# Altium footprint library Connector.PCBLIB: 82 footprints (part 3 of 6)
Each footprint in its own frame and in the unit in brackets; x right, y up, seen from the top. Pads: shape width x height; smd on the part's side, far side on the other; paste and mask are expansions set on the pad; w line width, h text height; cw(c..) or ccw(c..) is an arc to the next point about the centre after c.
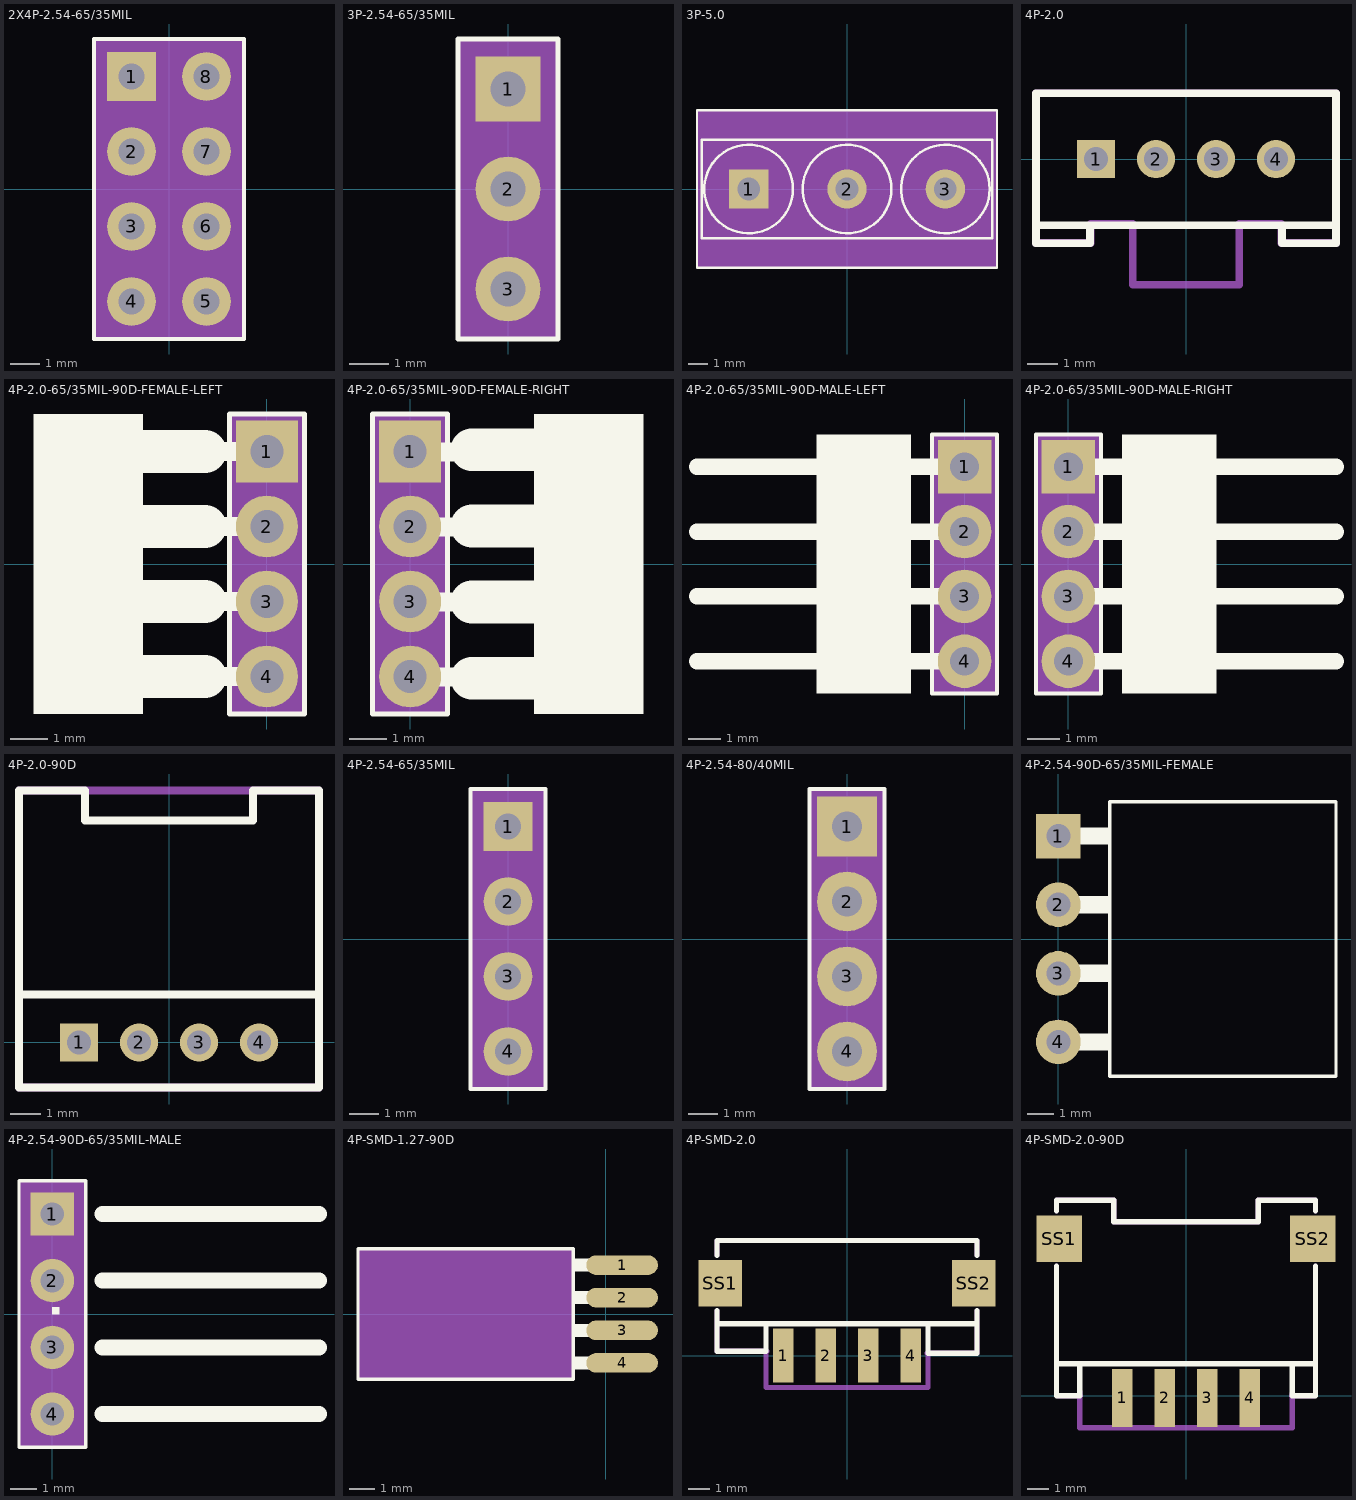
[diagram p2: the footprints below, top view; thin cyan lines are the x and y axes]

## 2X4P-2.54-65/35MIL [mil]
pads (8):
  rect 65x65 hole 35: 1(-50,150)
  round 65 hole 35: 2(-50,50) 3(-50,-50) 4(-50,-150) 5(50,-150) 6(50,-50) 7(50,50) 8(50,150)
Top Overlay:
  lines w5: -100,-200 100,-200 100,200 -100,200 -100,-200
Mechanical 27:
  rectangle: -100,-200 100,200

## 3P-2.54-65/35MIL [mil]
pads (3):
  rect 65x65 hole 35: 1(0,100)
  round 65 hole 35: 2(0,0) 3(0,-100)
Top Overlay:
  lines w5: -50,-150 50,-150 50,150 -50,150 -50,-150
Mechanical 27:
  rectangle: -50,-150 50,150
  lines w0: -50,-150 50,-150 50,150 -50,150 -50,-150

## 3P-5.0 [mil]
pads (3):
  rect 80x80 hole 46: 1(-200,0)
  round 80 hole 46: 2(0,0) 3(200,0)
Top Overlay:
  circle w5: c-200,0 r90.14
  circle w5: c0,0 r90.14
  circle w5: c200,0 r90.14
  lines w5: -305,-160 -305,160 305,160 305,-160 -305,-160 ; -295,-100 -295,100 295,100 295,-100 -295,-100
Mechanical 27:
  region: 305,-160 305,160 -305,160 -305,-160

## 4P-2.0 [mil]
pads (4):
  rect 50x50 hole 31.5: 1(-118.11,0)
  round 50 hole 31.5: 2(-39.37,0) 3(39.37,0) 4(118.11,0)
Top Overlay:
  lines w5: -196.85,-39.37 -196.85,39.37
  lines w10: 196.85,-59.06 196.85,59.06 ; -196.85,-86.61 -196.85,86.61 196.85,86.61 196.85,-86.61 ; -196.85,-86.61 -125.98,-86.61 ; -196.85,-86.61 -196.85,-110.24 -125.98,-110.24 -125.98,-86.61 ; -125.98,-86.61 125.98,-86.61 ; 125.98,-86.61 196.85,-86.61 ; 125.98,-86.61 125.98,-110.24 196.85,-110.24 196.85,-86.61
Mechanical 27:
  lines w10: -196.85,-110.24 -196.85,86.61 196.85,86.61 196.85,-110.24 ; -195,-110 -125,-110 -125,-85 -70,-85 -70,-165 70,-165 70,-85 125,-85 125,-110 195,-110

## 4P-2.0-65/35MIL-90D-FEMALE-LEFT [mil]
pads (4):
  rect 65x65 hole 35: 1(0,118.11)
  round 65 hole 35: 2(0,39.37) 3(0,-39.37) 4(0,-118.11)
Top Overlay:
  rectangle: -245,-157.48 -130,157.48
  lines w5: -39.37,-157.48 39.37,-157.48 39.37,157.48 -39.37,157.48 -39.37,-157.48
  lines w20: -65,-118.11 0,-118.11 ; -65,-39.37 0,-39.37 ; -65,39.37 0,39.37 ; -65,118.11 0,118.11
  lines w45: -130,-118.11 -65,-118.11 ; -130,-39.37 -65,-39.37 ; -130,39.37 -65,39.37 ; -130,118.11 -65,118.11
Mechanical 27:
  rectangle: -39.37,-157.48 39.37,157.48

## 4P-2.0-65/35MIL-90D-FEMALE-RIGHT [mil]
pads (4):
  rect 65x65 hole 35: 1(0,118.11)
  round 65 hole 35: 2(0,39.37) 3(0,-39.37) 4(0,-118.11)
Top Overlay:
  rectangle: 130,-157.48 245,157.48
  lines w5: -39.37,-157.48 39.37,-157.48 39.37,157.48 -39.37,157.48 -39.37,-157.48
  lines w20: 0,-118.72 65,-118.72 ; 0,-39.98 65,-39.98 ; 0,38.76 65,38.76 ; 0,117.5 65,117.5
  lines w45: 65,-120 130,-120 ; 65,-40 130,-40 ; 65,40 130,40 ; 65,120 130,120
Mechanical 27:
  rectangle: -39.37,-157.48 39.37,157.48

## 4P-2.0-65/35MIL-90D-MALE-LEFT [mil]
pads (4):
  rect 65x65 hole 35: 1(0,118.11)
  round 65 hole 35: 2(0,39.37) 3(0,-39.37) 4(0,-118.11)
Top Overlay:
  rectangle: -180,-157.48 -65,157.48
  lines w5: -39.37,-157.48 39.37,-157.48 39.37,157.48 -39.37,157.48 -39.37,-157.48
  lines w20: -325,-118.11 -180,-118.11 ; -325,-39.37 -180,-39.37 ; -325,39.37 -180,39.37 ; -325,118.11 -180,118.11 ; -65,-118.11 0,-118.11 ; -65,-39.37 0,-39.37 ; -65,39.37 0,39.37 ; -65,118.11 0,118.11
Mechanical 27:
  rectangle: -39.37,-157.48 39.37,157.48

## 4P-2.0-65/35MIL-90D-MALE-RIGHT [mil]
pads (4):
  rect 65x65 hole 35: 1(0,118.11)
  round 65 hole 35: 2(0,39.37) 3(0,-39.37) 4(0,-118.11)
Top Overlay:
  rectangle: 65,-157.48 180,157.48
  lines w5: -39.37,-157.48 39.37,-157.48 39.37,157.48 -39.37,157.48 -39.37,-157.48
  lines w20: 0,-118.11 65,-118.11 ; 0,-39.37 65,-39.37 ; 0,39.37 65,39.37 ; 0,118.11 65,118.11 ; 180,-118.11 325,-118.11 ; 180,-39.37 325,-39.37 ; 180,39.37 325,39.37 ; 180,118.11 325,118.11
Mechanical 27:
  rectangle: -39.37,-157.48 39.37,157.48

## 4P-2.0-90D [mil]
pads (4):
  rect 50x50 hole 31.5: 1(-118.11,0)
  round 50 hole 31.5: 2(-39.37,0) 3(39.37,0) 4(118.11,0)
Top Overlay:
  lines w5: -196.85,-39.37 -196.85,39.37
  lines w10: -196.85,62.99 -196.85,330.71 -110.24,330.71 -110.24,291.34 110.24,291.34 110.24,330.71 196.85,330.71 196.85,62.99 ; -196.85,62.99 -196.85,-59.06 196.85,-59.06 196.85,62.99 ; -196.85,62.99 196.85,62.99
Mechanical 27:
  lines w10: -196.85,-59.06 196.85,-59.06 196.85,330.71 -196.85,330.71 -196.85,-59.06

## 4P-2.54-65/35MIL [mil]
pads (4):
  rect 65x65 hole 35: 1(0,150)
  round 65 hole 35: 2(0,50) 3(0,-50) 4(0,-150)
Top Overlay:
  lines w5: -50,-200 50,-200 50,200 -50,200 -50,-200
Mechanical 27:
  rectangle: -50,-200 50,200
  lines w0: -50,-200 50,-200 50,200 -50,200 -50,-200

## 4P-2.54-80/40MIL [mil]
pads (4):
  rect 80x80 hole 40: 1(0,150)
  round 80 hole 40: 2(0,50) 3(0,-50) 4(0,-150)
Top Overlay:
  lines w5: -50,-200 50,-200 50,200 -50,200 -50,-200
Mechanical 27:
  rectangle: -50,-200 50,200

## 4P-2.54-90D-65/35MIL-FEMALE [mil]
pads (4):
  rect 65x65 hole 35: 1(0,150)
  round 65 hole 35: 2(0,50) 3(0,-50) 4(0,-150)
Top Overlay:
  rectangle: 0,137.5 75,162.5
  rectangle: 0,37.5 75,62.5
  rectangle: 0,-62.5 75,-37.5
  rectangle: 0,-162.5 75,-137.5
  lines w5: 75,-200 405,-200 405,200 75,200 75,-200

## 4P-2.54-90D-65/35MIL-MALE [mil]
pads (4):
  rect 65x65 hole 35: 1(0,150)
  round 65 hole 35: 2(0,50) 3(0,-50) 4(0,-150)
Top Overlay:
  region: 0,0 10,0 10,10 0,10
  region: 0,0 10,0 10,10 0,10
  region: 0,0 10,0 10,10 0,10
  region: 0,0 10,0 10,10 0,10
  lines w5: -50,-200 50,-200 50,200 -50,200 -50,-200
  lines w24: 75,-150 400,-150 ; 75,-50 400,-50 ; 75,50 400,50 ; 75,150 400,150
Mechanical 27:
  rectangle: -50,-200 50,200

## 4P-SMD-1.27-90D [mil]
pads (4):
  rrect100% 110x30 smd: 1(25,75) 2(25,25) 3(25,-25) 4(25,-75)
Top Overlay:
  rectangle: -50,65 20,85
  rectangle: -50,15 20,35
  rectangle: -50,-35 20,-15
  rectangle: -50,-85 20,-65
  lines w5: -380,-100 -50,-100 -50,100 -380,100 -380,-100
Mechanical 27:
  rectangle: -380,-100 -50,100

## 4P-SMD-2.0 [mil]
pads (6):
  rect 38x100 smd: 1(-118.11,0) 2(-39.37,0) 3(39.37,0) 4(118.11,0)
  rect 80x86 smd: SS1(-234.09,133.86) SS2(234.09,133.86)
Top Overlay:
  lines w10: -240.16,82.68 -240.16,59.06 ; -240.16,185.04 -240.16,212.6 240.16,212.6 240.16,185.04 ; 240.16,82.68 240.16,59.06 ; -240.16,59.06 -149.61,59.06 ; -240.16,59.06 -240.16,7.87 -149.61,7.87 -149.61,59.06 ; -149.61,59.06 149.61,59.06 ; 149.61,59.06 240.16,59.06 ; 149.61,59.06 149.61,3.94 240.16,3.94 240.16,59.06
Mechanical 27:
  lines w10: -240.16,7.87 -240.16,82.68 ; -240.16,185.04 -240.16,212.6 240.16,212.6 240.16,185.04 ; -238.31,8.11 -148.62,8.11 ; -149.61,7.87 -149.61,-59.06 149.61,-59.06 149.61,3.94 ; 148.62,4.17 238.31,4.17 ; 240.16,3.94 240.16,82.68

## 4P-SMD-2.0-90D [mil]
pads (6):
  rect 38x107.87 smd: 1(-118.11,-3.94) 2(-39.37,-3.94) 3(39.37,-3.94) 4(118.11,-3.94)
  rect 85x86 smd: SS1(-235.19,291.34) SS2(235.19,291.34)
Top Overlay:
  lines w10: -240.16,240.16 -240.16,59.06 ; -240.16,342.52 -240.16,362.2 -133.86,362.2 -133.86,322.83 133.86,322.83 133.86,362.2 240.16,362.2 240.16,342.52 ; 240.16,240.16 240.16,59.06 ; -240.16,59.06 -196.85,59.06 ; -240.16,59.06 -240.16,0 -196.85,0 -196.85,59.06 ; -196.85,59.06 196.85,59.06 ; 196.85,59.06 240.16,59.06 ; 196.85,59.06 196.85,0 240.16,0 240.16,59.06
Mechanical 27:
  lines w10: -240.16,7.87 -240.16,240.16 ; -240.16,342.52 -240.16,362.2 ; -238.31,0 -195.87,0 ; -236.22,362.2 -133.86,362.2 -133.86,322.83 133.86,322.83 133.86,362.2 236.22,362.2 ; -196.85,7.87 -196.85,-59.06 196.85,-59.06 196.85,3.94 ; 195.87,0 238.31,0 ; 240.16,3.94 240.16,240.16 ; 240.16,342.52 240.16,362.2